# Altium schematic symbol library AD598.SchLib: 1 symbol
Pins are listed as number, name and electrical type; pins without a type are passive.

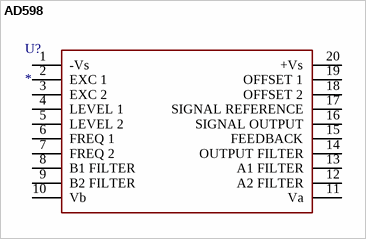
[diagram p0: symbol AD598]

## AD598
designator U?
footprint SOIC127P600-8N
pins: 1 -Vs, 2 EXC 1, 3 EXC 2, 4 LEVEL 1, 5 LEVEL 2 "Termal Pad", 6 FREQ 1 "Termal Pad", 7 FREQ 2 "Termal Pad", 8 B1 FILTER "Termal Pad", 9 B2 FILTER "Termal Pad", 10 Vb "Termal Pad", 11 Va "Termal Pad", 12 A2 FILTER "Termal Pad", 13 A1 FILTER "Termal Pad", 14 OUTPUT FILTER "Termal Pad", 15 FEEDBACK "Termal Pad", 16 SIGNAL OUTPUT "Termal Pad", 17 SIGNAL REFERENCE "Termal Pad", 18 OFFSET 2 "Termal Pad", 19 OFFSET 1 "Termal Pad", 20 +Vs "Termal Pad"